# Altium footprint library pcie_connectors.PcbLib: 2 footprints
Each footprint in its own frame and in the unit in brackets; x right, y up, seen from the top. Pads: shape width x height; smd on the part's side, far side on the other; paste and mask are expansions set on the pad; w line width, h text height; cw(c..) or ccw(c..) is an arc to the next point about the centre after c.
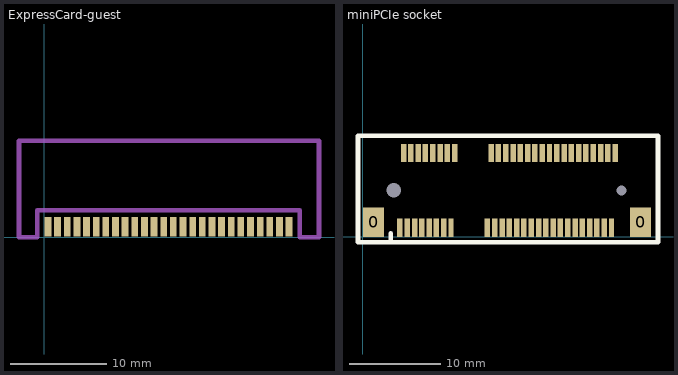
[diagram p0: the footprints below, top view; thin cyan lines are the x and y axes]

## ExpressCard-guest [mm]
height 6
pads (26):
  rect 0.7x2 smd: 1(0.4,1.1) 2(1.4,1.1) 3(2.4,1.1) 4(3.4,1.1) 5(4.4,1.1) 6(5.4,1.1) 7(6.4,1.1) 8(7.4,1.1) 9(8.4,1.1) 10(9.4,1.1) 11(10.4,1.1) 12(11.4,1.1) 13(12.4,1.1) 14(13.4,1.1) 15(14.4,1.1) 16(15.4,1.1) 17(16.4,1.1) 18(17.4,1.1) 19(18.4,1.1) 20(19.4,1.1) 21(20.4,1.1) 22(21.4,1.1) 23(22.4,1.1) 24(23.4,1.1) 25(24.4,1.1) 26(25.4,1.1)
Mechanical 1:
  lines w0.5: -2.6,0 -2.6,1.025 -2.6,1.475 -2.6,2.9 -2.6,7.1 -2.6,10 28.5,10 28.5,0 26.5,0 26.5,2.8 -0.7,2.8 -0.7,0 -2.6,0

## miniPCIe socket [mm]
height 13
pads (56):
  rect 2.3x3.2 smd: 0(1.2,1.6) 0(30.5,1.6)
  rect 0.6x2 smd: 1(4.1,1) 2(4.5,9.2) 3(4.9,1) 4(5.3,9.2) 5(5.7,1) 6(6.1,9.2) 7(6.5,1) 8(6.9,9.2) 9(7.3,1) 10(7.7,9.2) 11(8.1,1) 12(8.5,9.2) 13(8.9,1) 14(9.3,9.2) 15(9.7,1) 16(10.1,9.2) 17(13.7,1) 18(14.1,9.2) 19(14.5,1) 20(14.9,9.2) 21(15.3,1) 22(15.7,9.2) 23(16.1,1) 24(16.5,9.2) 25(16.9,1) 26(17.3,9.2) 27(17.7,1) 28(18.1,9.2) 29(18.5,1) 30(18.9,9.2) 31(19.3,1) 32(19.7,9.2) 33(20.1,1) 34(20.5,9.2) 35(20.9,1) 36(21.3,9.2) 37(21.7,1) 38(22.1,9.2) 39(22.5,1) 40(22.9,9.2) 41(23.3,1) 42(23.7,9.2) 43(24.1,1) 44(24.5,9.2) 45(24.9,1) 46(25.3,9.2) 47(25.7,1) 48(26.1,9.2) 49(26.5,1) 50(26.9,9.2) 51(27.3,1) 52(27.7,9.2)
  round 0 hole 1.6 unplated: ""(3.4,5.1)
  round 0 hole 1.1 unplated: ""(28.4,5.1)
Top Overlay:
  lines w0.5: -0.5,-0.6 32.4,-0.6 32.4,11.1 -0.5,11.1 -0.5,-0.4 ; 2.9,-0.6 3,-0.6 3.1,-0.6 3.1,0.4